# EAGLE library part LM3.5/9/90 (library con-weidmueller-350)
LM3.5/9/90
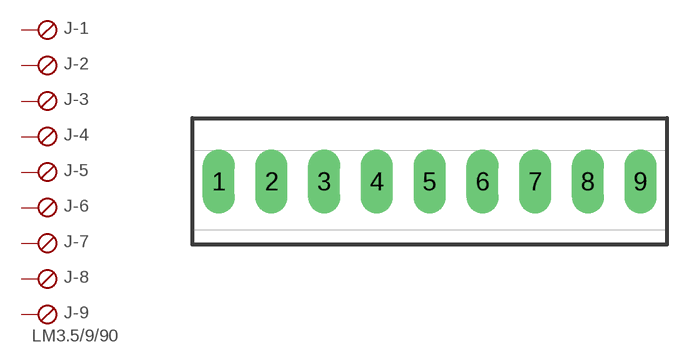
[diagram p3: symbol with the pads of LM-09; footprint LM-09]

Designator prefix J; gates -1=SKB -2=SKB -3=SKB -4=SKB -5=SKB -6=SKB -7=SKB -8=SKB -9=SKBU+V

## LM3.5/9/90  [LM-09]
1  -1:S  pas
2  -2:S  pas
3  -3:S  pas
4  -4:S  pas
5  -5:S  pas
6  -6:S  pas
7  -7:S  pas
8  -8:S  pas
9  -9:S  pas

## Footprint LM-09 (pad centres in mm)
LM 3.5/9/90
drill 1.422 long: 1 -14,0; 2 -10.5,0; 3 -7,0; 4 -3.5,0; 5 0,0; 6 3.5,0; 7 7,0; 8 10.5,0; 9 14,0